# EAGLE library part MCP16323 (library usb)
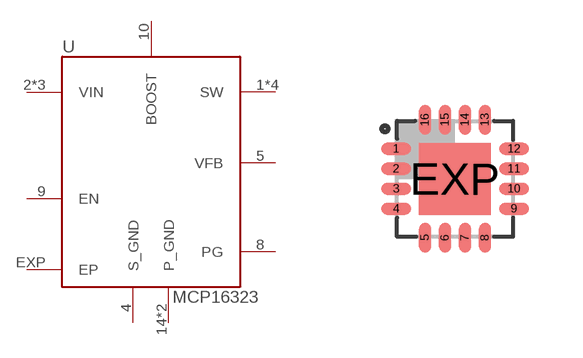
[diagram p3: symbol with the pads of QFN16-3X3; footprint QFN16-3X3]

Designator prefix U

## MCP16323  [QFN16-3X3]
1  SW  out
2  VIN  pwr
3  VIN  pwr
4  S_GND
5  VFB
8  PG
9  EN
10  BOOST
11  VIN  pwr
12  SW  out
13  SW  out
14  P_GND
15  P_GND
16  SW  out
EXP  EP  sup

## Footprint QFN16-3X3 (pad centres in mm)
QFN-16 3x3 mm
smd 0.75 x 0.3: 1 -1.475,0.75; 2 -1.475,0.25; 3 -1.475,-0.25; 4 -1.475,-0.75; 9 1.475,-0.75; 10 1.475,-0.25; 11 1.475,0.25; 12 1.475,0.75
smd 0.3 x 0.75: 5 -0.75,-1.475; 6 -0.25,-1.475; 7 0.25,-1.475; 8 0.75,-1.475; 13 0.75,1.475; 14 0.25,1.475; 15 -0.25,1.475; 16 -0.75,1.475
smd 1.8 x 1.8: EXP 0,0